# EAGLE library part PESD5V0UBV (library laforge)
NXP PESD5V0U5BV 5-channel bidirectional TVS array
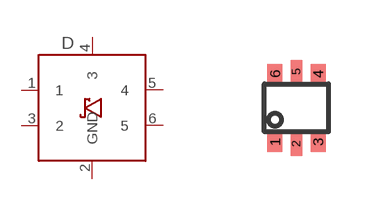
[diagram p36: symbol with the pads of SOT666; footprint SOT666]

Designator prefix D

## PESD5V0UBV (OC_DIGIKEY: 568-7356-1-ND)  [SOT666]
1  1  pas
2  GND  pas
3  2  pas
4  3  pas
5  4  pas
6  5  pas

## Footprint SOT666 (pad centres in mm)
SOT666 package outline (NXP semiconductors, taken from PED5V0U5BV DS 04-11-08)
smd 0.375 x 0.5: 1 -0.538,-0.85; 3 0.538,-0.85; 4 0.538,0.85; 6 -0.538,0.85
smd 0.3 x 0.6: 2 0,-0.9; 5 0,0.9